# Altium schematic symbol library Diode Standard.SchLib: 5 symbols
Pins are listed as number, name and electrical type; pins without a type are passive.

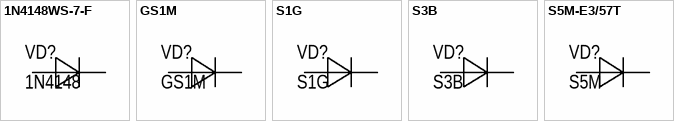
[diagram p0: symbols 1N4148WS-7-F to S5M-E3/57T]

## 1N4148WS-7-F
designator VD?, comment 1N4148
Diode Standard 75 V 150mA Surface Mount SOD-323; Manufacture: Diodes Incorporated; Model: 1N4148WS-7-F; Name: Диод; Case: SC-76, SOD-323; HelpURL: https://www.digikey.com/en/products/detail/diodes-incorporated/1n4148ws-7-f/815127; Value: 1N4148
footprint SC-76, SOD-323
pins: 1 C, 2 A

## GS1M
designator VD?
Diode Standard 1000 V 1A Surface Mount SMA (DO-214AC); Manufacture: SMC Diode Solutions; Name: Диод; Case: DO-214AC, SMA; HelpURL: https://www.digikey.com/en/products/detail/smc-diode-solutions/GS1M/6022522; Value: GS1M; Model: GS1M
footprint DO-214AC, SMA
pins: 1 A, 2 C

## S1G
designator VD?
Diode Standard 400 V 1A Surface Mount DO-214AC, SMA; Manufacture: ON Semiconductor; Name: Диод; Case: DO-214AC, SMA; HelpURL: https://www.digikey.com/en/products/detail/fairchild-semiconductor/S1G/13515743; Value: S1G; Model: S1G
footprint DO-214AC, SMA
pins: 1 A, 2 C

## S3B
designator VD?
Diode Standard 100 V 3A Surface Mount SMC (DO-214AB); Manufacture: ON Semiconductor; Name: Диод; Case: DO-214AB, SMC; HelpURL: https://www.digikey.com/en/products/detail/on-semiconductor/S3B/1050683; Value: S3B; Model: S3B
footprint DO-214AB (SMC)
pins: 1 A, 2 C

## S5M-E3/57T
designator VD?, comment S5M
Diode Standard 1000 V 5A Surface Mount DO-214AB (SMC); Manufacture: Vishay General Semiconductor - Diodes Division; Model: S5M-E3/57T; Name: Диод; Case: DO-214AB (SMC); HelpURL: https://www.digikey.com/en/products/detail/vishay-general-semiconductor-diodes-division/S5M-E3-57T/1091485?s=N4IgTCBcDaIMoFYCyBaAogZgPQIOwBUQBdAXyA; Value: S5M
footprint DO-214AB (SMC)
pins: 1 A, 2 C